# EAGLE library part AD9832 (library balmer)
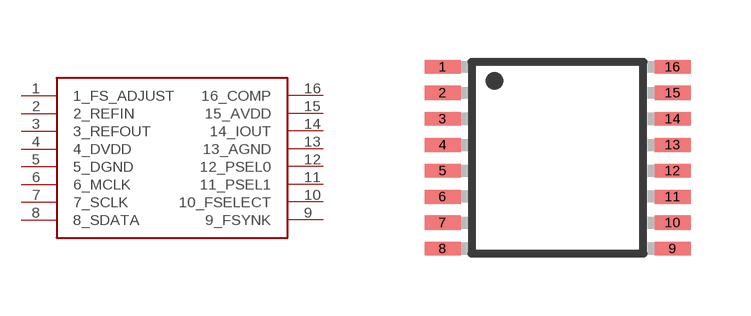
[diagram p1: symbol with the pads of TSSOP16; footprint TSSOP16]

Designator prefix IC

## AD9832  [TSSOP16]
1  1_FS_ADJUST
2  2_REFIN
3  3_REFOUT
4  4_DVDD
5  5_DGND
6  6_MCLK
7  7_SCLK
8  8_SDATA
9  9_FSYNK
10  10_FSELECT
11  11_PSEL1
12  12_PSEL0
13  13_AGND
14  14_IOUT
15  15_AVDD
16  16_COMP

## Footprint TSSOP16 (pad centres in mm)
16-Lead Thin Shrink Small Outline Package [TSSOP] (RU-16) Source: 8x ADG1408_1409.pdf
smd 0.9 x 0.35: 1 -2.875,2.275; 2 -2.875,1.625; 3 -2.875,0.975; 4 -2.875,0.325; 5 -2.875,-0.325; 6 -2.875,-0.975; 7 -2.875,-1.625; 8 -2.875,-2.275; 9 2.875,-2.275; 10 2.875,-1.625; 11 2.875,-0.975; 12 2.875,-0.325; 13 2.875,0.325; 14 2.875,0.975; 15 2.875,1.625; 16 2.875,2.275